# EAGLE library part TL072CDT (library MotorControllerEagleLibrary)
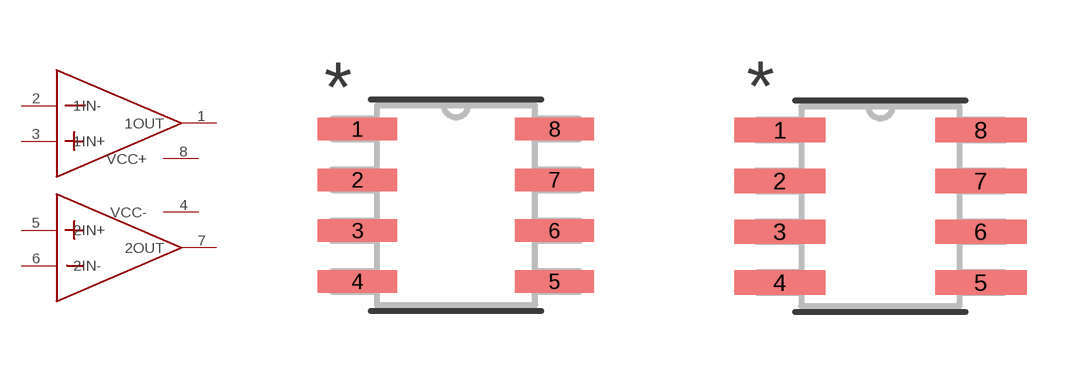
[diagram p2: symbol with the pads of D8; footprints D8, D8-M]

Designator prefix U

## TL072CDT (MANUFACTURER_PART_NUMBER: TL072CDT; VENDOR: Texas Instruments)  [D8]
1  1OUT  out
2  1IN-  in
3  1IN+  in
4  VCC-  pwr
5  2IN+  in
6  2IN-  in
7  2OUT  out
8  VCC+  pwr

## TL072CDTD8-M (MANUFACTURER_PART_NUMBER: TL072CDT; VENDOR: Texas Instruments)  [D8-M]
Pads as for D8

## TL072CDTD8-L (MANUFACTURER_PART_NUMBER: TL072CDT; VENDOR: Texas Instruments)  [D8-L]
Pads as for D8

## Footprint D8 (pad centres in mm)
smd 1.981 x 0.559: 1 -2.464,1.905; 2 -2.464,0.635; 3 -2.464,-0.635; 4 -2.464,-1.905; 5 2.464,-1.905; 6 2.464,-0.635; 7 2.464,0.635; 8 2.464,1.905

## Footprint D8-M (pad centres in mm)
smd 2.286 x 0.61: 1 -2.515,1.905; 2 -2.515,0.635; 3 -2.515,-0.635; 4 -2.515,-1.905; 5 2.515,-1.905; 6 2.515,-0.635; 7 2.515,0.635; 8 2.515,1.905

## Footprint D8-L (pad centres in mm)
smd 1.676 x 0.508: 1 -2.413,1.905; 2 -2.413,0.635; 3 -2.413,-0.635; 4 -2.413,-1.905; 5 2.413,-1.905; 6 2.413,-0.635; 7 2.413,0.635; 8 2.413,1.905